# EAGLE library part BUFFER-2X1BIT (library CougsInSpace)
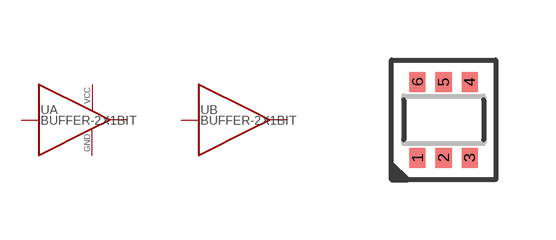
[diagram p26: symbol with the pads of SC70; footprint SC70]

Designator prefix U; gates A=BUFFER_POWER B=BUFFER

## BUFFER-2X1BITSC70  [SC70]
1  A:A  in
2  A:GND  pwr
3  B:A  in
4  B:Y  out
5  A:VCC  pwr
6  A:Y  out

## Footprint SC70 (pad centres in mm)
smd 0.4 x 0.5: 1 -0.65,-0.95; 2 0,-0.95; 3 0.65,-0.95; 4 0.65,0.95; 5 0,0.95; 6 -0.65,0.95